# Altium footprint library MSOP-10_MS_LIT-L.PcbLib: 1 footprints
Each footprint in its own frame and in the unit in brackets; x right, y up, seen from the top. Pads: shape width x height; smd on the part's side, far side on the other; paste and mask are expansions set on the pad; w line width, h text height; cw(c..) or ccw(c..) is an arc to the next point about the centre after c.
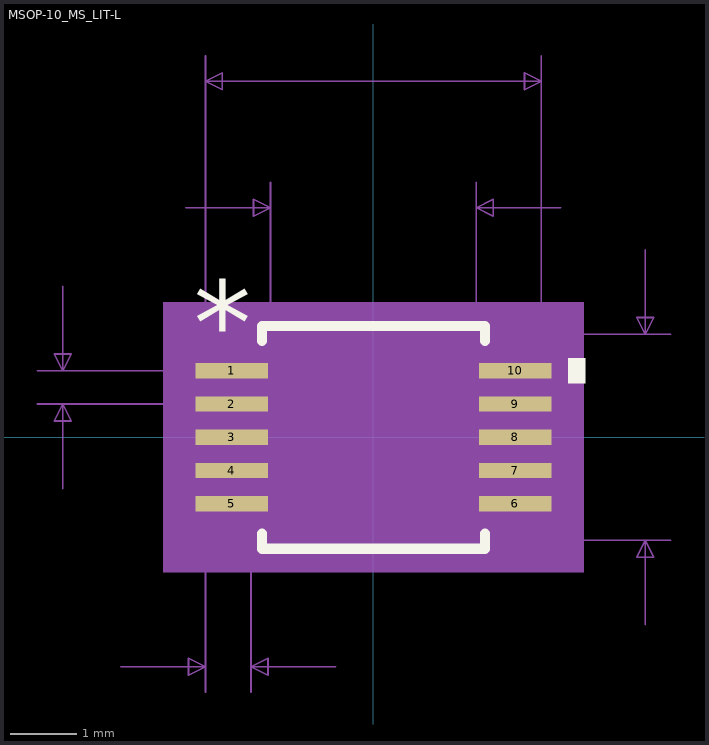
[diagram p0: the footprint, top view; thin cyan lines are the x and y axes]

## MSOP-10_MS_LIT-L [mil]
pads (10):
  rect 43x9 smd paste+0 mask+0: 1(-84,39.4) 2(-84,19.7) 3(-84,0) 4(-84,-19.7) 5(-84,-39.4) 6(84,-39.4) 7(84,-19.7) 8(84,0) 9(84,19.7) 10(84,39.4)
Top Overlay:
  region: 115.5,46.9 125.5,46.9 125.5,31.9 115.5,31.9
  lines w6: -66,-57 -66,-66 66,-66 66,-57 ; -66,57 -66,66 66,66 66,57
  text "*" at -106.5,43.4 h50
Mechanical 5:
  region: 124.5,-80 -124.5,-80 -124.5,80 124.5,80
Mechanical 7:
  lines w1: -199,19.7 -84,19.7 ; -199,39.4 -84,39.4 ; -184,-30.3 -184,19.7 ; -184,89.4 -184,39.4 ; -149.5,-136 -99.5,-136 ; -111,136 -61,136 ; -99.5,-151 -99.5,0 -99.5,226 ; -72.5,-151 -72.5,0 ; -61,0 -61,151 ; -22.5,-136 -72.5,-136 ; 0,-61 176,-61 ; 0,61 176,61 ; 61,0 61,151 ; 99.5,0 99.5,226 ; 111,136 61,136 ; 161,-111 161,-61 ; 161,111 161,61 ; -184,19.7 -179,9.7 -189,9.7 -184,19.7 ; -184,39.4 -179,49.4 -189,49.4 -184,39.4 ; -99.5,-136 -109.5,-141 -109.5,-131 -99.5,-136 ; -99.5,211 -89.5,206 -89.5,216 -99.5,211 ; -99.5,211 99.5,211 ; -72.5,-136 -62.5,-141 -62.5,-131 -72.5,-136 ; -61,136 -71,131 -71,141 -61,136 ; 61,136 71,131 71,141 61,136 ; 99.5,211 89.5,206 89.5,216 99.5,211 ; 161,-61 166,-71 156,-71 161,-61 ; 161,61 166,71 156,71 161,61
  text "0.027in/0.686mm" at -179.75,-181 h25
  text "0.02in/0.5mm" at -354,17.05 h25
  text "0.122in/3.099mm" at 181,-12.5 h25
  text "0.199in/5.055mm" at -93.75,231 h25
  text "0.122in/3.099mm" at -93.75,156 h25
  text "Alt 2 Padstyle: OX90Y60D30P" at -337.5,-561 h50
  text "Alt 1 Padstyle: OX60Y90D30P" at -337.5,-501 h50
  text "Pin One Padstyle: RX43Y9D0T" at -337.5,-321 h50
  text "Default Padstyle: RX43Y9D0T" at -337.5,-261 h50
Mechanical 13:
  lines w0: -12,61 ccw(c0,61) 12,61
  lines w1: -99.5,-44.9 -61,-44.9 -61,-33.9 -99.5,-33.9 -99.5,-44.9 ; -99.5,-25.2 -61,-25.2 -61,-14.2 -99.5,-14.2 -99.5,-25.2 ; -99.5,-5.5 -61,-5.5 -61,5.5 -99.5,5.5 -99.5,-5.5 ; -99.5,14.2 -61,14.2 -61,25.2 -99.5,25.2 -99.5,14.2 ; -99.5,33.9 -61,33.9 -61,44.9 -99.5,44.9 -99.5,33.9 ; -61,-61 -61,61 61,61 61,-61 -61,-61 ; 61,-44.9 99.5,-44.9 99.5,-33.9 61,-33.9 61,-44.9 ; 61,-25.2 99.5,-25.2 99.5,-14.2 61,-14.2 61,-25.2 ; 61,-5.5 99.5,-5.5 99.5,5.5 61,5.5 61,-5.5 ; 61,14.2 99.5,14.2 99.5,25.2 61,25.2 61,14.2 ; 61,33.9 99.5,33.9 99.5,44.9 61,44.9 61,33.9
  text "*" at -58.5,8 h50
Mechanical 15:
  region: -65,-47.9 -109.5,-47.9 -109.5,47.9 -65,47.9 -65,65 65,65 65,47.9 109.5,47.9 109.5,-47.9 65,-47.9 65,-65 -65,-65
  lines w6: -109.5,-47.9 -65,-47.9 -65,-65 65,-65 65,-47.9 109.5,-47.9 109.5,47.9 65,47.9 65,65 -65,65 -65,47.9 -109.5,47.9 -109.5,-47.9
3D body: height 10, standoff 0, extent 0,0 10,10